# Altium integrated library ON Semi Signal Management Digital POTs.IntLib: 284 symbols (part 1 of 11)
Pins are listed as number, name and electrical type; pins without a type are passive.

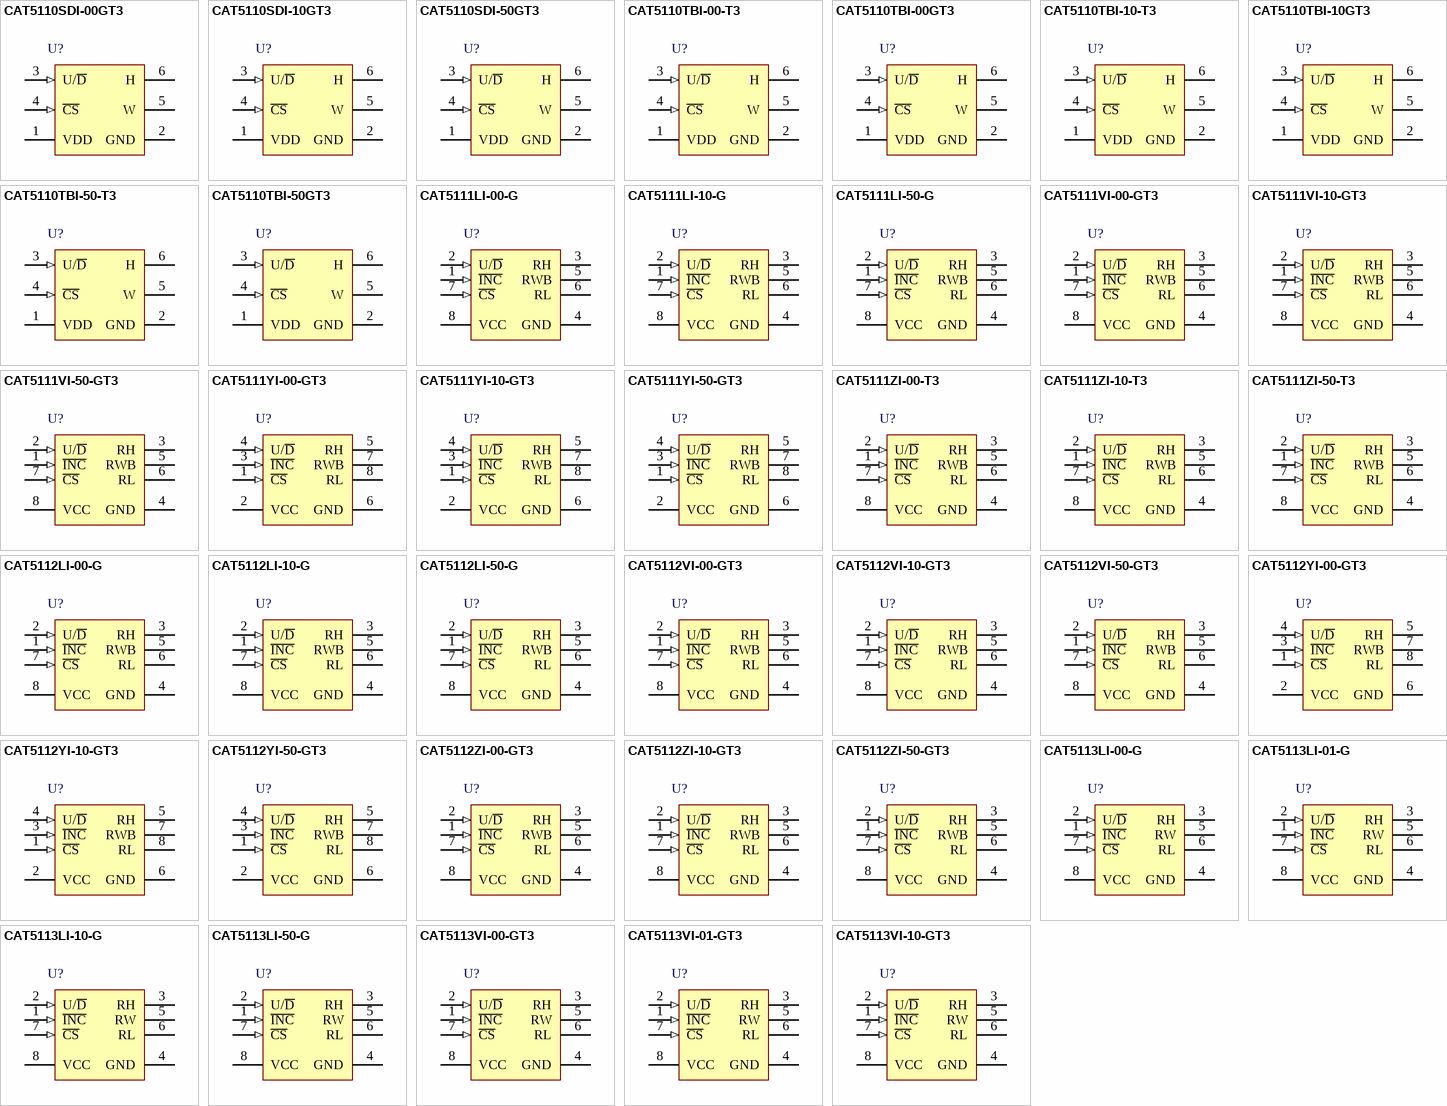
[diagram p0: symbols CAT5110SDI-00GT3 to CAT5113VI-10-GT3]

## CAT5110SDI-00GT3
designator U?
32 Tap Digital Potentiometer (POT) with 2-Wire Interface, -40 to 85 degC, 6-Pin SC70, Pb-Free, Tape and Reel; Manufacturer: On Semiconductor; PartNumber: CAT5110SDI-00GT3; # of Pots: 1; # of Taps: 32; Control Interface: Up/Down; VDD Max (V): 5.5; DatasheetVersion: Rev. 13; PackageVersion: Rev. A, 07/2010; PackageReference: SC70-6-419AD-01; PackageDescription: 6-Pin Small Outline Transistor, Body 2 x 1.25 mm, Pitch 0.65 mm; Supplier 1: Digi-Key; Supplier Part Number 1: CAT5110SDI-00GT3-ND; Supplier 2: Mouser; Supplier Part Number 2: 863-CAT5110SDI-00GT3; Packing: Tape and Reel; RoHS: TRUE; Type: Potentiometer; Mounting Technology: Surface Mount; Code_JEDEC: MO-203; ComponentLink1Description: Manufacturer URL; ComponentLink1URL: http://www.onsemi.com/; ComponentLink2Description: Datasheet; ComponentLink2URL: http://www.onsemi.com/pub_link/Collateral/CAT5110-D.PDF; ComponentLink3Description: Package Specification; ComponentLink3URL: http://www.onsemi.com/pub_link/Collateral/419AD.PDF
footprint ONSC-SC70-6-419AD-01_N (SOT23, 6-Leads, Body 2.2x1.35mm, Pitch 0.65mm, IPC Medium Density)
footprint ONSC-SC70-6-419AD-01_L (SOT23, 6-Leads, Body 2.2x1.35mm, Pitch 0.65mm, IPC High Density)
footprint ONSC-SC70-6-419AD-01_M (SOT23, 6-Leads, Body 2.2x1.35mm, Pitch 0.65mm, IPC Low Density)
pins: 1 VDD (power) "Power Supply", 2 GND (power) "Ground", 3 U/~{D} (in) "Up/D\o\w\n\ Control Input. With C\S\ low, a low-to-high transition increments or decrements the wiper position.", 4 ~{CS} (in) "Chip Select Input. A high-to-low C\S\ transition determines the mode: increment if U/D\ is high, or decrement if U/D\ is low.", 5 W "Wiper Terminal of Resistor", 6 H "High Terminal of Resistor"

## CAT5110SDI-10GT3
designator U?
32 Tap Digital Potentiometer (POT) with 2-Wire Interface, -40 to 85 degC, 6-Pin SC70, Pb-Free, Tape and Reel; Manufacturer: On Semiconductor; PartNumber: CAT5110SDI-10GT3; # of Pots: 1; # of Taps: 32; Control Interface: Up/Down; VDD Max (V): 5.5; DatasheetVersion: Rev. 13; PackageVersion: Rev. A, 07/2010; PackageReference: SC70-6-419AD-01; PackageDescription: 6-Pin Small Outline Transistor, Body 2 x 1.25 mm, Pitch 0.65 mm; Supplier 1: Mouser; Supplier Part Number 1: 863-CAT5110SDI-10GT3; Packing: Tape and Reel; RoHS: TRUE; Type: Potentiometer; Mounting Technology: Surface Mount; Code_JEDEC: MO-203; ComponentLink1Description: Manufacturer URL; ComponentLink1URL: http://www.onsemi.com/; ComponentLink2Description: Datasheet; ComponentLink2URL: http://www.onsemi.com/pub_link/Collateral/CAT5110-D.PDF; ComponentLink3Description: Package Specification; ComponentLink3URL: http://www.onsemi.com/pub_link/Collateral/419AD.PDF
footprint ONSC-SC70-6-419AD-01_N (SOT23, 6-Leads, Body 2.2x1.35mm, Pitch 0.65mm, IPC Medium Density)
footprint ONSC-SC70-6-419AD-01_L (SOT23, 6-Leads, Body 2.2x1.35mm, Pitch 0.65mm, IPC High Density)
footprint ONSC-SC70-6-419AD-01_M (SOT23, 6-Leads, Body 2.2x1.35mm, Pitch 0.65mm, IPC Low Density)
pins: 1 VDD (power) "Power Supply", 2 GND (power) "Ground", 3 U/~{D} (in) "Up/D\o\w\n\ Control Input. With C\S\ low, a low-to-high transition increments or decrements the wiper position.", 4 ~{CS} (in) "Chip Select Input. A high-to-low C\S\ transition determines the mode: increment if U/D\ is high, or decrement if U/D\ is low.", 5 W "Wiper Terminal of Resistor", 6 H "High Terminal of Resistor"

## CAT5110SDI-50GT3
designator U?
32 Tap Digital Potentiometer (POT) with 2-Wire Interface, -40 to 85 degC, 6-Pin SC70, Pb-Free, Tape and Reel; Manufacturer: On Semiconductor; PartNumber: CAT5110SDI-50GT3; # of Pots: 1; # of Taps: 32; Control Interface: Up/Down; VDD Max (V): 5.5; DatasheetVersion: Rev. 13; PackageVersion: Rev. A, 07/2010; PackageReference: SC70-6-419AD-01; PackageDescription: 6-Pin Small Outline Transistor, Body 2 x 1.25 mm, Pitch 0.65 mm; Supplier 1: Mouser; Supplier Part Number 1: 863-CAT5110SDI-50GT3; Packing: Tape and Reel; RoHS: TRUE; Type: Potentiometer; Mounting Technology: Surface Mount; Code_JEDEC: MO-203; ComponentLink1Description: Manufacturer URL; ComponentLink1URL: http://www.onsemi.com/; ComponentLink2Description: Datasheet; ComponentLink2URL: http://www.onsemi.com/pub_link/Collateral/CAT5110-D.PDF; ComponentLink3Description: Package Specification; ComponentLink3URL: http://www.onsemi.com/pub_link/Collateral/419AD.PDF
footprint ONSC-SC70-6-419AD-01_N (SOT23, 6-Leads, Body 2.2x1.35mm, Pitch 0.65mm, IPC Medium Density)
footprint ONSC-SC70-6-419AD-01_L (SOT23, 6-Leads, Body 2.2x1.35mm, Pitch 0.65mm, IPC High Density)
footprint ONSC-SC70-6-419AD-01_M (SOT23, 6-Leads, Body 2.2x1.35mm, Pitch 0.65mm, IPC Low Density)
pins: 1 VDD (power) "Power Supply", 2 GND (power) "Ground", 3 U/~{D} (in) "Up/D\o\w\n\ Control Input. With C\S\ low, a low-to-high transition increments or decrements the wiper position.", 4 ~{CS} (in) "Chip Select Input. A high-to-low C\S\ transition determines the mode: increment if U/D\ is high, or decrement if U/D\ is low.", 5 W "Wiper Terminal of Resistor", 6 H "High Terminal of Resistor"

## CAT5110TBI-00-T3
designator U?
32 Tap Digital Potentiometer (POT) with 2-Wire Interface, -40 to 85 degC, 6-Pin SOT23, Pb-Free, Tape and Reel; Manufacturer: On Semiconductor; PartNumber: CAT5110TBI-00-T3; # of Pots: 1; # of Taps: 32; Control Interface: Up/Down; VDD Max (V): 5.5; DatasheetVersion: Rev. 13; PackageVersion: Rev. B, 02/2012; PackageReference: SOT23-6-527AJ; PackageDescription: 6-Pin Small Outline Transistor, Body 2.85 x 1.55 mm, Pitch 0.95 mm; Supplier 1: Digi-Key; Supplier Part Number 1: CAT5110TBI-00-T3TR-ND; Supplier 2: Digi-Key; Supplier Part Number 2: CAT5110TBI-00-T3CT-ND; Supplier 3: Digi-Key; Supplier Part Number 3: CAT5110TBI-00-T3DKR-ND; Supplier 4: Newark; Supplier Part Number 4: 08R5274; Supplier 5: Mouser; Supplier Part Number 5: 698-CAT5110TBI-00-T3; Packing: Tape and Reel; RoHS: TRUE; Type: Potentiometer; Mounting Technology: Surface Mount; ComponentLink1Description: Manufacturer URL; ComponentLink1URL: http://www.onsemi.com/; ComponentLink2Description: Datasheet; ComponentLink2URL: http://www.onsemi.com/pub_link/Collateral/CAT5110-D.PDF; ComponentLink3Description: Package Specification; ComponentLink3URL: http://www.onsemi.com/pub_link/Collateral/527AJ.PDF
footprint ONSC-SOT23-6-527AJ_V (SOT23, 6-Leads, Body 3x1.8mm, Pitch 0.95mm)
pins: 1 VDD (power) "Power Supply", 2 GND (power) "Ground", 3 U/~{D} (in) "Up/D\o\w\n\ Control Input. With C\S\ low, a low-to-high transition increments or decrements the wiper position.", 4 ~{CS} (in) "Chip Select Input. A high-to-low C\S\ transition determines the mode: increment if U/D\ is high, or decrement if U/D\ is low.", 5 W "Wiper Terminal of Resistor", 6 H "High Terminal of Resistor"

## CAT5110TBI-00GT3
designator U?
32 Tap Digital Potentiometer (POT) with 2-Wire Interface, -40 to 85 degC, 6-Pin SOT23, Pb-Free, Tape and Reel; Manufacturer: On Semiconductor; PartNumber: CAT5110TBI-00GT3; # of Pots: 1; # of Taps: 32; Control Interface: Up/Down; VDD Max (V): 5.5; DatasheetVersion: Rev. 13; PackageVersion: Rev. B, 02/2012; PackageReference: SOT23-6-527AJ; PackageDescription: 6-Pin Small Outline Transistor, Body 2.85 x 1.55 mm, Pitch 0.95 mm; Supplier 1: Digi-Key; Supplier Part Number 1: CAT5110TBI-00GT3-ND; Supplier 2: Farnell; Supplier Part Number 2: 1783736; Supplier 3: Newark; Supplier Part Number 3: 34R3311; Supplier 4: Mouser; Supplier Part Number 4: 863-CAT5110TBI-00GT3; Packing: Tape and Reel; RoHS: TRUE; Type: Potentiometer; Mounting Technology: Surface Mount; ComponentLink1Description: Manufacturer URL; ComponentLink1URL: http://www.onsemi.com/; ComponentLink2Description: Datasheet; ComponentLink2URL: http://www.onsemi.com/pub_link/Collateral/CAT5110-D.PDF; ComponentLink3Description: Package Specification; ComponentLink3URL: http://www.onsemi.com/pub_link/Collateral/527AJ.PDF
footprint ONSC-SOT23-6-527AJ_V (SOT23, 6-Leads, Body 3x1.8mm, Pitch 0.95mm)
pins: 1 VDD (power) "Power Supply", 2 GND (power) "Ground", 3 U/~{D} (in) "Up/D\o\w\n\ Control Input. With C\S\ low, a low-to-high transition increments or decrements the wiper position.", 4 ~{CS} (in) "Chip Select Input. A high-to-low C\S\ transition determines the mode: increment if U/D\ is high, or decrement if U/D\ is low.", 5 W "Wiper Terminal of Resistor", 6 H "High Terminal of Resistor"

## CAT5110TBI-10-T3
designator U?
32 Tap Digital Potentiometer (POT) with 2-Wire Interface, -40 to 85 degC, 6-Pin SOT23, Pb-Free, Tape and Reel; Manufacturer: On Semiconductor; PartNumber: CAT5110TBI-10-T3; # of Pots: 1; # of Taps: 32; Control Interface: Up/Down; VDD Max (V): 5.5; DatasheetVersion: Rev. 13; PackageVersion: Rev. B, 02/2012; PackageReference: SOT23-6-527AJ; PackageDescription: 6-Pin Small Outline Transistor, Body 2.85 x 1.55 mm, Pitch 0.95 mm; Supplier 1: Mouser; Supplier Part Number 1: 698-CAT5110TBI-10-T3; Packing: Tape and Reel; RoHS: TRUE; Type: Potentiometer; Mounting Technology: Surface Mount; ComponentLink1Description: Manufacturer URL; ComponentLink1URL: http://www.onsemi.com/; ComponentLink2Description: Datasheet; ComponentLink2URL: http://www.onsemi.com/pub_link/Collateral/CAT5110-D.PDF; ComponentLink3Description: Package Specification; ComponentLink3URL: http://www.onsemi.com/pub_link/Collateral/527AJ.PDF
footprint ONSC-SOT23-6-527AJ_V (SOT23, 6-Leads, Body 3x1.8mm, Pitch 0.95mm)
pins: 1 VDD (power) "Power Supply", 2 GND (power) "Ground", 3 U/~{D} (in) "Up/D\o\w\n\ Control Input. With C\S\ low, a low-to-high transition increments or decrements the wiper position.", 4 ~{CS} (in) "Chip Select Input. A high-to-low C\S\ transition determines the mode: increment if U/D\ is high, or decrement if U/D\ is low.", 5 W "Wiper Terminal of Resistor", 6 H "High Terminal of Resistor"

## CAT5110TBI-10GT3
designator U?
32 Tap Digital Potentiometer (POT) with 2-Wire Interface, -40 to 85 degC, 6-Pin SOT23, Pb-Free, Tape and Reel; Manufacturer: On Semiconductor; PartNumber: CAT5110TBI-10GT3; # of Pots: 1; # of Taps: 32; Control Interface: Up/Down; VDD Max (V): 5.5; DatasheetVersion: Rev. 13; PackageVersion: Rev. B, 02/2012; PackageReference: SOT23-6-527AJ; PackageDescription: 6-Pin Small Outline Transistor, Body 2.85 x 1.55 mm, Pitch 0.95 mm; Supplier 1: Digi-Key; Supplier Part Number 1: CAT5110TBI-10GT3-ND; Supplier 2: Mouser; Supplier Part Number 2: 863-CAT5110TBI-10GT3; Packing: Tape and Reel; RoHS: TRUE; Type: Potentiometer; Mounting Technology: Surface Mount; ComponentLink1Description: Manufacturer URL; ComponentLink1URL: http://www.onsemi.com/; ComponentLink2Description: Datasheet; ComponentLink2URL: http://www.onsemi.com/pub_link/Collateral/CAT5110-D.PDF; ComponentLink3Description: Package Specification; ComponentLink3URL: http://www.onsemi.com/pub_link/Collateral/527AJ.PDF
footprint ONSC-SOT23-6-527AJ_V (SOT23, 6-Leads, Body 3x1.8mm, Pitch 0.95mm)
pins: 1 VDD (power) "Power Supply", 2 GND (power) "Ground", 3 U/~{D} (in) "Up/D\o\w\n\ Control Input. With C\S\ low, a low-to-high transition increments or decrements the wiper position.", 4 ~{CS} (in) "Chip Select Input. A high-to-low C\S\ transition determines the mode: increment if U/D\ is high, or decrement if U/D\ is low.", 5 W "Wiper Terminal of Resistor", 6 H "High Terminal of Resistor"

## CAT5110TBI-50-T3
designator U?
32 Tap Digital Potentiometer (POT) with 2-Wire Interface, -40 to 85 degC, 6-Pin SOT23, Pb-Free, Tape and Reel; Manufacturer: On Semiconductor; PartNumber: CAT5110TBI-50-T3; # of Pots: 1; # of Taps: 32; Control Interface: Up/Down; VDD Max (V): 5.5; DatasheetVersion: Rev. 13; PackageVersion: Rev. B, 02/2012; PackageReference: SOT23-6-527AJ; PackageDescription: 6-Pin Small Outline Transistor, Body 2.85 x 1.55 mm, Pitch 0.95 mm; Supplier 1: Digi-Key; Supplier Part Number 1: CAT5110TBI-50-T3TR-ND; Supplier 2: Digi-Key; Supplier Part Number 2: CAT5110TBI-50-T3CT-ND; Supplier 3: Digi-Key; Supplier Part Number 3: CAT5110TBI-50-T3DKR-ND; Supplier 4: Mouser; Supplier Part Number 4: 698-CAT5110TBI-50-T3; Packing: Tape and Reel; RoHS: TRUE; Type: Potentiometer; Mounting Technology: Surface Mount; ComponentLink1Description: Manufacturer URL; ComponentLink1URL: http://www.onsemi.com/; ComponentLink2Description: Datasheet; ComponentLink2URL: http://www.onsemi.com/pub_link/Collateral/CAT5110-D.PDF; ComponentLink3Description: Package Specification; ComponentLink3URL: http://www.onsemi.com/pub_link/Collateral/527AJ.PDF
footprint ONSC-SOT23-6-527AJ_V (SOT23, 6-Leads, Body 3x1.8mm, Pitch 0.95mm)
pins: 1 VDD (power) "Power Supply", 2 GND (power) "Ground", 3 U/~{D} (in) "Up/D\o\w\n\ Control Input. With C\S\ low, a low-to-high transition increments or decrements the wiper position.", 4 ~{CS} (in) "Chip Select Input. A high-to-low C\S\ transition determines the mode: increment if U/D\ is high, or decrement if U/D\ is low.", 5 W "Wiper Terminal of Resistor", 6 H "High Terminal of Resistor"

## CAT5110TBI-50GT3
designator U?
32 Tap Digital Potentiometer (POT) with 2-Wire Interface, -40 to 85 degC, 6-Pin SOT23, Pb-Free, Tape and Reel; Manufacturer: On Semiconductor; PartNumber: CAT5110TBI-50GT3; # of Pots: 1; # of Taps: 32; Control Interface: Up/Down; VDD Max (V): 5.5; DatasheetVersion: Rev. 13; PackageVersion: Rev. B, 02/2012; PackageReference: SOT23-6-527AJ; PackageDescription: 6-Pin Small Outline Transistor, Body 2.85 x 1.55 mm, Pitch 0.95 mm; Supplier 1: Digi-Key; Supplier Part Number 1: CAT5110TBI-50GT3-ND; Supplier 2: Farnell; Supplier Part Number 2: 1783738; Supplier 3: Newark; Supplier Part Number 3: 34R3313; Supplier 4: Mouser; Supplier Part Number 4: 863-CAT5110TBI-50GT3; Packing: Tape and Reel; RoHS: TRUE; Type: Potentiometer; Mounting Technology: Surface Mount; ComponentLink1Description: Manufacturer URL; ComponentLink1URL: http://www.onsemi.com/; ComponentLink2Description: Datasheet; ComponentLink2URL: http://www.onsemi.com/pub_link/Collateral/CAT5110-D.PDF; ComponentLink3Description: Package Specification; ComponentLink3URL: http://www.onsemi.com/pub_link/Collateral/527AJ.PDF
footprint ONSC-SOT23-6-527AJ_V (SOT23, 6-Leads, Body 3x1.8mm, Pitch 0.95mm)
pins: 1 VDD (power) "Power Supply", 2 GND (power) "Ground", 3 U/~{D} (in) "Up/D\o\w\n\ Control Input. With C\S\ low, a low-to-high transition increments or decrements the wiper position.", 4 ~{CS} (in) "Chip Select Input. A high-to-low C\S\ transition determines the mode: increment if U/D\ is high, or decrement if U/D\ is low.", 5 W "Wiper Terminal of Resistor", 6 H "High Terminal of Resistor"

## CAT5111LI-00-G
designator U?
100 Tap Digital Potentiometer (POT) with Buffered Wiper, -40 to 85 degC, 8-Pin PDIP, Pb-Free, Tube; Manufacturer: On Semiconductor; PartNumber: CAT5111LI-00-G; # of Pots: 1; # of Taps: 100; Control Interface: Up/Down; VDD Max (V): 6; DatasheetVersion: Rev. 20; PackageVersion: Rev. A, 03/2009; PackageReference: PDIP-8-646AA-01; PackageDescription: 8-Pin Plastic Dual-In Line Package, Body 9.59 x 6.605 mm, Pitch 2.54 mm; Supplier 1: Mouser; Supplier Part Number 1: 698-CAT5111LI-00-G; Packing: Tube; RoHS: TRUE; Type: Potentiometer; Mounting Technology: Through Hole; Code_JEDEC: MS-001; ComponentLink1Description: Manufacturer URL; ComponentLink1URL: http://www.onsemi.com/; ComponentLink2Description: Datasheet; ComponentLink2URL: http://www.onsemi.com/pub_link/Collateral/CAT5111-D.PDF; ComponentLink3Description: Package Specification; ComponentLink3URL: http://www.onsemi.com/pub_link/Collateral/646AA.PDF
footprint ONSC-PDIP-8-646AA-01 (DIP, 8-Leads, Body 10.15x7.1mm, Pitch 2.54mm)
pins: 1 ~{INC} (in) "Increment Control", 2 U/~{D} (in) "Up/Down Control", 3 RH "Potentiometer High Terminal", 4 GND (power) "Ground", 5 RWB "Buffered Wiper Terminal", 6 RL "Potentiometer Low Terminal", 7 ~{CS} (in) "Chip Select", 8 VCC (power) "Supply Voltage"

## CAT5111LI-10-G
designator U?
100 Tap Digital Potentiometer (POT) with Buffered Wiper, -40 to 85 degC, 8-Pin PDIP, Pb-Free, Tube; Manufacturer: On Semiconductor; PartNumber: CAT5111LI-10-G; # of Pots: 1; # of Taps: 100; Control Interface: Up/Down; VDD Max (V): 6; DatasheetVersion: Rev. 20; PackageVersion: Rev. A, 03/2009; PackageReference: PDIP-8-646AA-01; PackageDescription: 8-Pin Plastic Dual-In Line Package, Body 9.59 x 6.605 mm, Pitch 2.54 mm; Supplier 1: Mouser; Supplier Part Number 1: 698-CAT5111LI-10-G; Packing: Tube; RoHS: TRUE; Type: Potentiometer; Mounting Technology: Through Hole; Code_JEDEC: MS-001; ComponentLink1Description: Manufacturer URL; ComponentLink1URL: http://www.onsemi.com/; ComponentLink2Description: Datasheet; ComponentLink2URL: http://www.onsemi.com/pub_link/Collateral/CAT5111-D.PDF; ComponentLink3Description: Package Specification; ComponentLink3URL: http://www.onsemi.com/pub_link/Collateral/646AA.PDF
footprint ONSC-PDIP-8-646AA-01 (DIP, 8-Leads, Body 10.15x7.1mm, Pitch 2.54mm)
pins: 1 ~{INC} (in) "Increment Control", 2 U/~{D} (in) "Up/Down Control", 3 RH "Potentiometer High Terminal", 4 GND (power) "Ground", 5 RWB "Buffered Wiper Terminal", 6 RL "Potentiometer Low Terminal", 7 ~{CS} (in) "Chip Select", 8 VCC (power) "Supply Voltage"

## CAT5111LI-50-G
designator U?
100 Tap Digital Potentiometer (POT) with Buffered Wiper, -40 to 85 degC, 8-Pin PDIP, Pb-Free, Tube; Manufacturer: On Semiconductor; PartNumber: CAT5111LI-50-G; # of Pots: 1; # of Taps: 100; Control Interface: Up/Down; VDD Max (V): 6; DatasheetVersion: Rev. 20; PackageVersion: Rev. A, 03/2009; PackageReference: PDIP-8-646AA-01; PackageDescription: 8-Pin Plastic Dual-In Line Package, Body 9.59 x 6.605 mm, Pitch 2.54 mm; Supplier 1: Mouser; Supplier Part Number 1: 698-CAT5111LI-50-G; Packing: Tube; RoHS: TRUE; Type: Potentiometer; Mounting Technology: Through Hole; Code_JEDEC: MS-001; ComponentLink1Description: Manufacturer URL; ComponentLink1URL: http://www.onsemi.com/; ComponentLink2Description: Datasheet; ComponentLink2URL: http://www.onsemi.com/pub_link/Collateral/CAT5111-D.PDF; ComponentLink3Description: Package Specification; ComponentLink3URL: http://www.onsemi.com/pub_link/Collateral/646AA.PDF
footprint ONSC-PDIP-8-646AA-01 (DIP, 8-Leads, Body 10.15x7.1mm, Pitch 2.54mm)
pins: 1 ~{INC} (in) "Increment Control", 2 U/~{D} (in) "Up/Down Control", 3 RH "Potentiometer High Terminal", 4 GND (power) "Ground", 5 RWB "Buffered Wiper Terminal", 6 RL "Potentiometer Low Terminal", 7 ~{CS} (in) "Chip Select", 8 VCC (power) "Supply Voltage"

## CAT5111VI-00-GT3
designator U?
100 Tap Digital Potentiometer (POT) with Buffered Wiper, -40 to 85 degC, 8-Pin SOIC, Pb-Free, Tape and Reel; Manufacturer: On Semiconductor; PartNumber: CAT5111VI-00-GT3; # of Pots: 1; # of Taps: 100; Control Interface: Up/Down; VDD Max (V): 6; DatasheetVersion: Rev. 20; PackageVersion: Rev. O, 12/2008; PackageReference: SOIC-8-751BD-01; PackageDescription: 8-Pin Small Outline Integrated Circuit, Body 4.9 x 3.9 mm, Pitch 1.27 mm; Supplier 1: Digi-Key; Supplier Part Number 1: CAT5111VI-00-GT3-ND; Supplier 2: Mouser; Supplier Part Number 2: 698-CAT5111VI-00-GT3; Packing: Tape and Reel; RoHS: TRUE; Type: Potentiometer; Mounting Technology: Surface Mount; Code_JEDEC: MS-012; ComponentLink1Description: Manufacturer URL; ComponentLink1URL: http://www.onsemi.com/; ComponentLink2Description: Datasheet; ComponentLink2URL: http://www.onsemi.com/pub_link/Collateral/CAT5111-D.PDF; ComponentLink3Description: Package Specification; ComponentLink3URL: http://www.onsemi.com/pub_link/Collateral/751BD.PDF
footprint ONSC-SOIC-8-751BD-01_N (SOIC, 8-Leads, Body 5x4mm, Pitch 1.27mm, IPC Medium Density)
footprint ONSC-SOIC-8-751BD-01_L (SOIC, 8-Leads, Body 5x4mm, Pitch 1.27mm, IPC High Density)
footprint ONSC-SOIC-8-751BD-01_M (SOIC, 8-Leads, Body 5x4mm, Pitch 1.27mm, IPC Low Density)
pins: 1 ~{INC} (in) "Increment Control", 2 U/~{D} (in) "Up/Down Control", 3 RH "Potentiometer High Terminal", 4 GND (power) "Ground", 5 RWB "Buffered Wiper Terminal", 6 RL "Potentiometer Low Terminal", 7 ~{CS} (in) "Chip Select", 8 VCC (power) "Supply Voltage"

## CAT5111VI-10-GT3
designator U?
100 Tap Digital Potentiometer (POT) with Buffered Wiper, -40 to 85 degC, 8-Pin SOIC, Pb-Free, Tape and Reel; Manufacturer: On Semiconductor; PartNumber: CAT5111VI-10-GT3; # of Pots: 1; # of Taps: 100; Control Interface: Up/Down; VDD Max (V): 6; DatasheetVersion: Rev. 20; PackageVersion: Rev. O, 12/2008; PackageReference: SOIC-8-751BD-01; PackageDescription: 8-Pin Small Outline Integrated Circuit, Body 4.9 x 3.9 mm, Pitch 1.27 mm; Supplier 1: Digi-Key; Supplier Part Number 1: CAT5111VI-10-GT3-ND; Supplier 2: Newark; Supplier Part Number 2: 06R1026; Supplier 3: Mouser; Supplier Part Number 3: 698-CAT5111VI-10-GT3; Packing: Tape and Reel; RoHS: TRUE; Type: Potentiometer; Mounting Technology: Surface Mount; Code_JEDEC: MS-012; ComponentLink1Description: Manufacturer URL; ComponentLink1URL: http://www.onsemi.com/; ComponentLink2Description: Datasheet; ComponentLink2URL: http://www.onsemi.com/pub_link/Collateral/CAT5111-D.PDF; ComponentLink3Description: Package Specification; ComponentLink3URL: http://www.onsemi.com/pub_link/Collateral/751BD.PDF
footprint ONSC-SOIC-8-751BD-01_N (SOIC, 8-Leads, Body 5x4mm, Pitch 1.27mm, IPC Medium Density)
footprint ONSC-SOIC-8-751BD-01_L (SOIC, 8-Leads, Body 5x4mm, Pitch 1.27mm, IPC High Density)
footprint ONSC-SOIC-8-751BD-01_M (SOIC, 8-Leads, Body 5x4mm, Pitch 1.27mm, IPC Low Density)
pins: 1 ~{INC} (in) "Increment Control", 2 U/~{D} (in) "Up/Down Control", 3 RH "Potentiometer High Terminal", 4 GND (power) "Ground", 5 RWB "Buffered Wiper Terminal", 6 RL "Potentiometer Low Terminal", 7 ~{CS} (in) "Chip Select", 8 VCC (power) "Supply Voltage"

## CAT5111VI-50-GT3
designator U?
100 Tap Digital Potentiometer (POT) with Buffered Wiper, -40 to 85 degC, 8-Pin SOIC, Pb-Free, Tape and Reel; Manufacturer: On Semiconductor; PartNumber: CAT5111VI-50-GT3; # of Pots: 1; # of Taps: 100; Control Interface: Up/Down; VDD Max (V): 6; DatasheetVersion: Rev. 20; PackageVersion: Rev. O, 12/2008; PackageReference: SOIC-8-751BD-01; PackageDescription: 8-Pin Small Outline Integrated Circuit, Body 4.9 x 3.9 mm, Pitch 1.27 mm; Supplier 1: Digi-Key; Supplier Part Number 1: CAT5111VI-50-GT3-ND; Supplier 2: Mouser; Supplier Part Number 2: 698-CAT5111VI-50-GT3; Packing: Tape and Reel; RoHS: TRUE; Type: Potentiometer; Mounting Technology: Surface Mount; Code_JEDEC: MS-012; ComponentLink1Description: Manufacturer URL; ComponentLink1URL: http://www.onsemi.com/; ComponentLink2Description: Datasheet; ComponentLink2URL: http://www.onsemi.com/pub_link/Collateral/CAT5111-D.PDF; ComponentLink3Description: Package Specification; ComponentLink3URL: http://www.onsemi.com/pub_link/Collateral/751BD.PDF
footprint ONSC-SOIC-8-751BD-01_N (SOIC, 8-Leads, Body 5x4mm, Pitch 1.27mm, IPC Medium Density)
footprint ONSC-SOIC-8-751BD-01_L (SOIC, 8-Leads, Body 5x4mm, Pitch 1.27mm, IPC High Density)
footprint ONSC-SOIC-8-751BD-01_M (SOIC, 8-Leads, Body 5x4mm, Pitch 1.27mm, IPC Low Density)
pins: 1 ~{INC} (in) "Increment Control", 2 U/~{D} (in) "Up/Down Control", 3 RH "Potentiometer High Terminal", 4 GND (power) "Ground", 5 RWB "Buffered Wiper Terminal", 6 RL "Potentiometer Low Terminal", 7 ~{CS} (in) "Chip Select", 8 VCC (power) "Supply Voltage"

## CAT5111YI-00-GT3
designator U?
100 Tap Digital Potentiometer (POT) with Buffered Wiper, -40 to 85 degC, 8-Pin TSSOP, Pb-Free, Tape and Reel; Manufacturer: On Semiconductor; PartNumber: CAT5111YI-00-GT3; # of Pots: 1; # of Taps: 100; Control Interface: Up/Down; VDD Max (V): 6; DatasheetVersion: Rev. 20; PackageVersion: Rev. O, 12/2008; PackageReference: TSSOP-8-948AL-01; PackageDescription: 8-Pin Small Outline Package, Body 4.4 x 3 mm, Pitch 0.65 mm; Supplier 1: Digi-Key; Supplier Part Number 1: CAT5111YI-00-GT3-ND; Supplier 2: Mouser; Supplier Part Number 2: 863-CAT5111YI-00-GT3; Packing: Tape and Reel; RoHS: TRUE; Type: Potentiometer; Mounting Technology: Surface Mount; Code_JEDEC: MO-153; ComponentLink1Description: Manufacturer URL; ComponentLink1URL: http://www.onsemi.com/; ComponentLink2Description: Datasheet; ComponentLink2URL: http://www.onsemi.com/pub_link/Collateral/CAT5111-D.PDF; ComponentLink3Description: Package Specification; ComponentLink3URL: http://www.onsemi.com/pub/Collateral/948AL.PDF
footprint ONSC-TSSOP-8-948AL-01_N (SOP, 8-Leads, Body 4.5x3.1mm, Pitch 0.65mm, IPC Medium Density)
footprint ONSC-TSSOP-8-948AL-01_L (SOP, 8-Leads, Body 4.5x3.1mm, Pitch 0.65mm, IPC High Density)
footprint ONSC-TSSOP-8-948AL-01_M (SOP, 8-Leads, Body 4.5x3.1mm, Pitch 0.65mm, IPC Low Density)
pins: 1 ~{CS} (in) "Chip Select", 2 VCC (power) "Supply Voltage", 3 ~{INC} (in) "Increment Control", 4 U/~{D} (in) "Up/Down Control", 5 RH "Potentiometer High Terminal", 6 GND (power) "Ground", 7 RWB "Buffered Wiper Terminal", 8 RL "Potentiometer Low Terminal"

## CAT5111YI-10-GT3
designator U?
100 Tap Digital Potentiometer (POT) with Buffered Wiper, -40 to 85 degC, 8-Pin TSSOP, Pb-Free, Tape and Reel; Manufacturer: On Semiconductor; PartNumber: CAT5111YI-10-GT3; # of Pots: 1; # of Taps: 100; Control Interface: Up/Down; VDD Max (V): 6; DatasheetVersion: Rev. 20; PackageVersion: Rev. O, 12/2008; PackageReference: TSSOP-8-948AL-01; PackageDescription: 8-Pin Small Outline Package, Body 4.4 x 3 mm, Pitch 0.65 mm; Supplier 1: Digi-Key; Supplier Part Number 1: CAT5111YI-10-GT3-ND; Supplier 2: Mouser; Supplier Part Number 2: 863-CAT5111YI-10-GT3; Packing: Tape and Reel; RoHS: TRUE; Type: Potentiometer; Mounting Technology: Surface Mount; Code_JEDEC: MO-153; ComponentLink1Description: Manufacturer URL; ComponentLink1URL: http://www.onsemi.com/; ComponentLink2Description: Datasheet; ComponentLink2URL: http://www.onsemi.com/pub_link/Collateral/CAT5111-D.PDF; ComponentLink3Description: Package Specification; ComponentLink3URL: http://www.onsemi.com/pub/Collateral/948AL.PDF
footprint ONSC-TSSOP-8-948AL-01_N (SOP, 8-Leads, Body 4.5x3.1mm, Pitch 0.65mm, IPC Medium Density)
footprint ONSC-TSSOP-8-948AL-01_L (SOP, 8-Leads, Body 4.5x3.1mm, Pitch 0.65mm, IPC High Density)
footprint ONSC-TSSOP-8-948AL-01_M (SOP, 8-Leads, Body 4.5x3.1mm, Pitch 0.65mm, IPC Low Density)
pins: 1 ~{CS} (in) "Chip Select", 2 VCC (power) "Supply Voltage", 3 ~{INC} (in) "Increment Control", 4 U/~{D} (in) "Up/Down Control", 5 RH "Potentiometer High Terminal", 6 GND (power) "Ground", 7 RWB "Buffered Wiper Terminal", 8 RL "Potentiometer Low Terminal"

## CAT5111YI-50-GT3
designator U?
100 Tap Digital Potentiometer (POT) with Buffered Wiper, -40 to 85 degC, 8-Pin TSSOP, Pb-Free, Tape and Reel; Manufacturer: On Semiconductor; PartNumber: CAT5111YI-50-GT3; # of Pots: 1; # of Taps: 100; Control Interface: Up/Down; VDD Max (V): 6; DatasheetVersion: Rev. 20; PackageVersion: Rev. O, 12/2008; PackageReference: TSSOP-8-948AL-01; PackageDescription: 8-Pin Small Outline Package, Body 4.4 x 3 mm, Pitch 0.65 mm; Supplier 1: Digi-Key; Supplier Part Number 1: CAT5111YI-50-GT3-ND; Supplier 2: Mouser; Supplier Part Number 2: 863-CAT5111YI-50-GT3; Packing: Tape and Reel; RoHS: TRUE; Type: Potentiometer; Mounting Technology: Surface Mount; Code_JEDEC: MO-153; ComponentLink1Description: Manufacturer URL; ComponentLink1URL: http://www.onsemi.com/; ComponentLink2Description: Datasheet; ComponentLink2URL: http://www.onsemi.com/pub_link/Collateral/CAT5111-D.PDF; ComponentLink3Description: Package Specification; ComponentLink3URL: http://www.onsemi.com/pub/Collateral/948AL.PDF
footprint ONSC-TSSOP-8-948AL-01_N (SOP, 8-Leads, Body 4.5x3.1mm, Pitch 0.65mm, IPC Medium Density)
footprint ONSC-TSSOP-8-948AL-01_L (SOP, 8-Leads, Body 4.5x3.1mm, Pitch 0.65mm, IPC High Density)
footprint ONSC-TSSOP-8-948AL-01_M (SOP, 8-Leads, Body 4.5x3.1mm, Pitch 0.65mm, IPC Low Density)
pins: 1 ~{CS} (in) "Chip Select", 2 VCC (power) "Supply Voltage", 3 ~{INC} (in) "Increment Control", 4 U/~{D} (in) "Up/Down Control", 5 RH "Potentiometer High Terminal", 6 GND (power) "Ground", 7 RWB "Buffered Wiper Terminal", 8 RL "Potentiometer Low Terminal"

## CAT5111ZI-00-T3
designator U?
100 Tap Digital Potentiometer (POT) with Buffered Wiper, -40 to 85 degC, 8-Pin MSOP, Pb-Free, Tape and Reel; Manufacturer: On Semiconductor; PartNumber: CAT5111ZI-00-T3; # of Pots: 1; # of Taps: 100; Control Interface: Up/Down; VDD Max (V): 6; DatasheetVersion: Rev. 20; PackageVersion: Rev. O, 12/2008; PackageReference: MSOP-8-846AD-01_O; PackageDescription: 8-Pin Small Outline Package, Body 3 x 3 mm, Pitch 0.65 mm; Supplier 1: Digi-Key; Supplier Part Number 1: CAT5111ZI-00-T3-ND; Supplier 2: Mouser; Supplier Part Number 2: 698-CAT5111ZI-00-T3; Packing: Tape and Reel; RoHS: TRUE; Type: Potentiometer; Mounting Technology: Surface Mount; Code_JEDEC: MO-187; ComponentLink1Description: Manufacturer URL; ComponentLink1URL: http://www.onsemi.com/; ComponentLink2Description: Datasheet; ComponentLink2URL: http://www.onsemi.com/pub_link/Collateral/CAT5111-D.PDF; ComponentLink3Description: Package Specification; ComponentLink3URL: http://www.onsemi.com/pub_link/Collateral/846AD.PDF
footprint ONSC-MSOP-8-846AD-01_N (SOP, 8-Leads, Body 3.1x3.1mm, Pitch 0.65mm, IPC Medium Density)
footprint ONSC-MSOP-8-846AD-01_L (SOP, 8-Leads, Body 3.1x3.1mm, Pitch 0.65mm, IPC High Density)
footprint ONSC-MSOP-8-846AD-01_M (SOP, 8-Leads, Body 3.1x3.1mm, Pitch 0.65mm, IPC Low Density)
pins: 1 ~{INC} (in) "Increment Control", 2 U/~{D} (in) "Up/Down Control", 3 RH "Potentiometer High Terminal", 4 GND (power) "Ground", 5 RWB "Buffered Wiper Terminal", 6 RL "Potentiometer Low Terminal", 7 ~{CS} (in) "Chip Select", 8 VCC (power) "Supply Voltage"

## CAT5111ZI-10-T3
designator U?
100 Tap Digital Potentiometer (POT) with Buffered Wiper, -40 to 85 degC, 8-Pin MSOP, Pb-Free, Tape and Reel; Manufacturer: On Semiconductor; PartNumber: CAT5111ZI-10-T3; # of Pots: 1; # of Taps: 100; Control Interface: Up/Down; VDD Max (V): 6; DatasheetVersion: Rev. 20; PackageVersion: Rev. O, 12/2008; PackageReference: MSOP-8-846AD-01_O; PackageDescription: 8-Pin Small Outline Package, Body 3 x 3 mm, Pitch 0.65 mm; Supplier 1: Digi-Key; Supplier Part Number 1: CAT5111ZI-10-T3-ND; Supplier 2: Mouser; Supplier Part Number 2: 698-CAT5111ZI-10-T3; Packing: Tape and Reel; RoHS: TRUE; Type: Potentiometer; Mounting Technology: Surface Mount; Code_JEDEC: MO-187; ComponentLink1Description: Manufacturer URL; ComponentLink1URL: http://www.onsemi.com/; ComponentLink2Description: Datasheet; ComponentLink2URL: http://www.onsemi.com/pub_link/Collateral/CAT5111-D.PDF; ComponentLink3Description: Package Specification; ComponentLink3URL: http://www.onsemi.com/pub_link/Collateral/846AD.PDF
footprint ONSC-MSOP-8-846AD-01_N (SOP, 8-Leads, Body 3.1x3.1mm, Pitch 0.65mm, IPC Medium Density)
footprint ONSC-MSOP-8-846AD-01_L (SOP, 8-Leads, Body 3.1x3.1mm, Pitch 0.65mm, IPC High Density)
footprint ONSC-MSOP-8-846AD-01_M (SOP, 8-Leads, Body 3.1x3.1mm, Pitch 0.65mm, IPC Low Density)
pins: 1 ~{INC} (in) "Increment Control", 2 U/~{D} (in) "Up/Down Control", 3 RH "Potentiometer High Terminal", 4 GND (power) "Ground", 5 RWB "Buffered Wiper Terminal", 6 RL "Potentiometer Low Terminal", 7 ~{CS} (in) "Chip Select", 8 VCC (power) "Supply Voltage"

## CAT5111ZI-50-T3
designator U?
100 Tap Digital Potentiometer (POT) with Buffered Wiper, -40 to 85 degC, 8-Pin MSOP, Pb-Free, Tape and Reel; Manufacturer: On Semiconductor; PartNumber: CAT5111ZI-50-T3; # of Pots: 1; # of Taps: 100; Control Interface: Up/Down; VDD Max (V): 6; DatasheetVersion: Rev. 20; PackageVersion: Rev. O, 12/2008; PackageReference: MSOP-8-846AD-01_O; PackageDescription: 8-Pin Small Outline Package, Body 3 x 3 mm, Pitch 0.65 mm; Supplier 1: Digi-Key; Supplier Part Number 1: CAT5111ZI-50-T3-ND; Supplier 2: Mouser; Supplier Part Number 2: 698-CAT5111ZI-50-T3; Packing: Tape and Reel; RoHS: TRUE; Type: Potentiometer; Mounting Technology: Surface Mount; Code_JEDEC: MO-187; ComponentLink1Description: Manufacturer URL; ComponentLink1URL: http://www.onsemi.com/; ComponentLink2Description: Datasheet; ComponentLink2URL: http://www.onsemi.com/pub_link/Collateral/CAT5111-D.PDF; ComponentLink3Description: Package Specification; ComponentLink3URL: http://www.onsemi.com/pub_link/Collateral/846AD.PDF
footprint ONSC-MSOP-8-846AD-01_N (SOP, 8-Leads, Body 3.1x3.1mm, Pitch 0.65mm, IPC Medium Density)
footprint ONSC-MSOP-8-846AD-01_L (SOP, 8-Leads, Body 3.1x3.1mm, Pitch 0.65mm, IPC High Density)
footprint ONSC-MSOP-8-846AD-01_M (SOP, 8-Leads, Body 3.1x3.1mm, Pitch 0.65mm, IPC Low Density)
pins: 1 ~{INC} (in) "Increment Control", 2 U/~{D} (in) "Up/Down Control", 3 RH "Potentiometer High Terminal", 4 GND (power) "Ground", 5 RWB "Buffered Wiper Terminal", 6 RL "Potentiometer Low Terminal", 7 ~{CS} (in) "Chip Select", 8 VCC (power) "Supply Voltage"

## CAT5112LI-00-G
designator U?
32 Tap Digital Potentiometer (POT) with Buffered Wiper, -40 to 85 degC, 8-Pin PDIP, Pb-Free, Tube; Manufacturer: On Semiconductor; PartNumber: CAT5112LI-00-G; # of Pots: 1; # of Taps: 32; Control Interface: Up/Down; VDD Max (V): 6; DatasheetVersion: Rev. 16; PackageVersion: Rev. A, 03/2009; PackageReference: PDIP-8-646AA-01; PackageDescription: 8-Pin Plastic Dual-In Line Package, Body 9.59 x 6.605 mm, Pitch 2.54 mm; Supplier 1: Mouser; Supplier Part Number 1: 698-CAT5112LI-00-G; Packing: Tube; RoHS: TRUE; Type: Potentiometer; Mounting Technology: Through Hole; Code_JEDEC: MS-001; ComponentLink1Description: Manufacturer URL; ComponentLink1URL: http://www.onsemi.com/; ComponentLink2Description: Datasheet; ComponentLink2URL: http://www.onsemi.com/pub_link/Collateral/CAT5112-D.PDF; ComponentLink3Description: Package Specification; ComponentLink3URL: http://www.onsemi.com/pub_link/Collateral/646AA.PDF
footprint ONSC-PDIP-8-646AA-01 (DIP, 8-Leads, Body 10.15x7.1mm, Pitch 2.54mm)
pins: 1 ~{INC} (in) "Increment Control", 2 U/~{D} (in) "Up/Down Control", 3 RH "Potentiometer High Terminal", 4 GND (power) "Ground", 5 RWB "Buffered Wiper Terminal", 6 RL "Potentiometer Low Terminal", 7 ~{CS} (in) "Chip Select", 8 VCC (power) "Supply Voltage"

## CAT5112LI-10-G
designator U?
32 Tap Digital Potentiometer (POT) with Buffered Wiper, -40 to 85 degC, 8-Pin PDIP, Pb-Free, Tube; Manufacturer: On Semiconductor; PartNumber: CAT5112LI-10-G; # of Pots: 1; # of Taps: 32; Control Interface: Up/Down; VDD Max (V): 6; DatasheetVersion: Rev. 16; PackageVersion: Rev. A, 03/2009; PackageReference: PDIP-8-646AA-01; PackageDescription: 8-Pin Plastic Dual-In Line Package, Body 9.59 x 6.605 mm, Pitch 2.54 mm; Supplier 1: Mouser; Supplier Part Number 1: 698-CAT5112LI-10-G; Packing: Tube; RoHS: TRUE; Type: Potentiometer; Mounting Technology: Through Hole; Code_JEDEC: MS-001; ComponentLink1Description: Manufacturer URL; ComponentLink1URL: http://www.onsemi.com/; ComponentLink2Description: Datasheet; ComponentLink2URL: http://www.onsemi.com/pub_link/Collateral/CAT5112-D.PDF; ComponentLink3Description: Package Specification; ComponentLink3URL: http://www.onsemi.com/pub_link/Collateral/646AA.PDF
footprint ONSC-PDIP-8-646AA-01 (DIP, 8-Leads, Body 10.15x7.1mm, Pitch 2.54mm)
pins: 1 ~{INC} (in) "Increment Control", 2 U/~{D} (in) "Up/Down Control", 3 RH "Potentiometer High Terminal", 4 GND (power) "Ground", 5 RWB "Buffered Wiper Terminal", 6 RL "Potentiometer Low Terminal", 7 ~{CS} (in) "Chip Select", 8 VCC (power) "Supply Voltage"

## CAT5112LI-50-G
designator U?
32 Tap Digital Potentiometer (POT) with Buffered Wiper, -40 to 85 degC, 8-Pin PDIP, Pb-Free, Tube; Manufacturer: On Semiconductor; PartNumber: CAT5112LI-50-G; # of Pots: 1; # of Taps: 32; Control Interface: Up/Down; VDD Max (V): 6; DatasheetVersion: Rev. 16; PackageVersion: Rev. A, 03/2009; PackageReference: PDIP-8-646AA-01; PackageDescription: 8-Pin Plastic Dual-In Line Package, Body 9.59 x 6.605 mm, Pitch 2.54 mm; Supplier 1: Mouser; Supplier Part Number 1: 698-CAT5112LI-50-G; Packing: Tube; RoHS: TRUE; Type: Potentiometer; Mounting Technology: Through Hole; Code_JEDEC: MS-001; ComponentLink1Description: Manufacturer URL; ComponentLink1URL: http://www.onsemi.com/; ComponentLink2Description: Datasheet; ComponentLink2URL: http://www.onsemi.com/pub_link/Collateral/CAT5112-D.PDF; ComponentLink3Description: Package Specification; ComponentLink3URL: http://www.onsemi.com/pub_link/Collateral/646AA.PDF
footprint ONSC-PDIP-8-646AA-01 (DIP, 8-Leads, Body 10.15x7.1mm, Pitch 2.54mm)
pins: 1 ~{INC} (in) "Increment Control", 2 U/~{D} (in) "Up/Down Control", 3 RH "Potentiometer High Terminal", 4 GND (power) "Ground", 5 RWB "Buffered Wiper Terminal", 6 RL "Potentiometer Low Terminal", 7 ~{CS} (in) "Chip Select", 8 VCC (power) "Supply Voltage"

## CAT5112VI-00-GT3
designator U?
32 Tap Digital Potentiometer (POT) with Buffered Wiper, -40 to 85 degC, 8-Pin SOIC, Pb-Free, Tape and Reel; Manufacturer: On Semiconductor; PartNumber: CAT5112VI-00-GT3; # of Pots: 1; # of Taps: 32; Control Interface: Up/Down; VDD Max (V): 6; DatasheetVersion: Rev. 16; PackageVersion: Rev. O, 12/2008; PackageReference: SOIC-8-751BD-01; PackageDescription: 8-Pin Small Outline Integrated Circuit, Body 4.9 x 3.9 mm, Pitch 1.27 mm; Supplier 1: Digi-Key; Supplier Part Number 1: CAT5112VI-00-GT3-ND; Supplier 2: Mouser; Supplier Part Number 2: 698-CAT5112VI-00-GT3; Packing: Tape and Reel; RoHS: TRUE; Type: Potentiometer; Mounting Technology: Surface Mount; Code_JEDEC: MS-012; ComponentLink1Description: Manufacturer URL; ComponentLink1URL: http://www.onsemi.com/; ComponentLink2Description: Datasheet; ComponentLink2URL: http://www.onsemi.com/pub_link/Collateral/CAT5112-D.PDF; ComponentLink3Description: Package Specification; ComponentLink3URL: http://www.onsemi.com/pub_link/Collateral/751BD.PDF
footprint ONSC-SOIC-8-751BD-01_N (SOIC, 8-Leads, Body 5x4mm, Pitch 1.27mm, IPC Medium Density)
footprint ONSC-SOIC-8-751BD-01_L (SOIC, 8-Leads, Body 5x4mm, Pitch 1.27mm, IPC High Density)
footprint ONSC-SOIC-8-751BD-01_M (SOIC, 8-Leads, Body 5x4mm, Pitch 1.27mm, IPC Low Density)
pins: 1 ~{INC} (in) "Increment Control", 2 U/~{D} (in) "Up/Down Control", 3 RH "Potentiometer High Terminal", 4 GND (power) "Ground", 5 RWB "Buffered Wiper Terminal", 6 RL "Potentiometer Low Terminal", 7 ~{CS} (in) "Chip Select", 8 VCC (power) "Supply Voltage"

## CAT5112VI-10-GT3
designator U?
32 Tap Digital Potentiometer (POT) with Buffered Wiper, -40 to 85 degC, 8-Pin SOIC, Pb-Free, Tape and Reel; Manufacturer: On Semiconductor; PartNumber: CAT5112VI-10-GT3; # of Pots: 1; # of Taps: 32; Control Interface: Up/Down; VDD Max (V): 6; DatasheetVersion: Rev. 16; PackageVersion: Rev. O, 12/2008; PackageReference: SOIC-8-751BD-01; PackageDescription: 8-Pin Small Outline Integrated Circuit, Body 4.9 x 3.9 mm, Pitch 1.27 mm; Supplier 1: Digi-Key; Supplier Part Number 1: CAT5112VI-10-GT3-ND; Supplier 2: Mouser; Supplier Part Number 2: 698-CAT5112VI-10-GT3; Packing: Tape and Reel; RoHS: TRUE; Type: Potentiometer; Mounting Technology: Surface Mount; Code_JEDEC: MS-012; ComponentLink1Description: Manufacturer URL; ComponentLink1URL: http://www.onsemi.com/; ComponentLink2Description: Datasheet; ComponentLink2URL: http://www.onsemi.com/pub_link/Collateral/CAT5112-D.PDF; ComponentLink3Description: Package Specification; ComponentLink3URL: http://www.onsemi.com/pub_link/Collateral/751BD.PDF
footprint ONSC-SOIC-8-751BD-01_N (SOIC, 8-Leads, Body 5x4mm, Pitch 1.27mm, IPC Medium Density)
footprint ONSC-SOIC-8-751BD-01_L (SOIC, 8-Leads, Body 5x4mm, Pitch 1.27mm, IPC High Density)
footprint ONSC-SOIC-8-751BD-01_M (SOIC, 8-Leads, Body 5x4mm, Pitch 1.27mm, IPC Low Density)
pins: 1 ~{INC} (in) "Increment Control", 2 U/~{D} (in) "Up/Down Control", 3 RH "Potentiometer High Terminal", 4 GND (power) "Ground", 5 RWB "Buffered Wiper Terminal", 6 RL "Potentiometer Low Terminal", 7 ~{CS} (in) "Chip Select", 8 VCC (power) "Supply Voltage"

## CAT5112VI-50-GT3
designator U?
32 Tap Digital Potentiometer (POT) with Buffered Wiper, -40 to 85 degC, 8-Pin SOIC, Pb-Free, Tape and Reel; Manufacturer: On Semiconductor; PartNumber: CAT5112VI-50-GT3; # of Pots: 1; # of Taps: 32; Control Interface: Up/Down; VDD Max (V): 6; DatasheetVersion: Rev. 16; PackageVersion: Rev. O, 12/2008; PackageReference: SOIC-8-751BD-01; PackageDescription: 8-Pin Small Outline Integrated Circuit, Body 4.9 x 3.9 mm, Pitch 1.27 mm; Supplier 1: Digi-Key; Supplier Part Number 1: CAT5112VI-50-GT3-ND; Supplier 2: Mouser; Supplier Part Number 2: 698-CAT5112VI-50-GT3; Packing: Tape and Reel; RoHS: TRUE; Type: Potentiometer; Mounting Technology: Surface Mount; Code_JEDEC: MS-012; ComponentLink1Description: Manufacturer URL; ComponentLink1URL: http://www.onsemi.com/; ComponentLink2Description: Datasheet; ComponentLink2URL: http://www.onsemi.com/pub_link/Collateral/CAT5112-D.PDF; ComponentLink3Description: Package Specification; ComponentLink3URL: http://www.onsemi.com/pub_link/Collateral/751BD.PDF
footprint ONSC-SOIC-8-751BD-01_N (SOIC, 8-Leads, Body 5x4mm, Pitch 1.27mm, IPC Medium Density)
footprint ONSC-SOIC-8-751BD-01_L (SOIC, 8-Leads, Body 5x4mm, Pitch 1.27mm, IPC High Density)
footprint ONSC-SOIC-8-751BD-01_M (SOIC, 8-Leads, Body 5x4mm, Pitch 1.27mm, IPC Low Density)
pins: 1 ~{INC} (in) "Increment Control", 2 U/~{D} (in) "Up/Down Control", 3 RH "Potentiometer High Terminal", 4 GND (power) "Ground", 5 RWB "Buffered Wiper Terminal", 6 RL "Potentiometer Low Terminal", 7 ~{CS} (in) "Chip Select", 8 VCC (power) "Supply Voltage"

## CAT5112YI-00-GT3
designator U?
32 Tap Digital Potentiometer (POT) with Buffered Wiper, -40 to 85 degC, 8-Pin TSSOP, Pb-Free, Tape and Reel; Manufacturer: On Semiconductor; PartNumber: CAT5112YI-00-GT3; # of Pots: 1; # of Taps: 32; Control Interface: Up/Down; VDD Max (V): 6; DatasheetVersion: Rev. 16; PackageVersion: Rev. O, 12/2008; PackageReference: TSSOP-8-948AL-01; PackageDescription: 8-Pin Small Outline Package, Body 4.4 x 3 mm, Pitch 0.65 mm; Supplier 1: Digi-Key; Supplier Part Number 1: CAT5112YI-00-GT3-ND; Supplier 2: Mouser; Supplier Part Number 2: 863-CAT5112YI-00-GT3; Packing: Tape and Reel; RoHS: TRUE; Type: Potentiometer; Mounting Technology: Surface Mount; Code_JEDEC: MO-153; ComponentLink1Description: Manufacturer URL; ComponentLink1URL: http://www.onsemi.com/; ComponentLink2Description: Datasheet; ComponentLink2URL: http://www.onsemi.com/pub_link/Collateral/CAT5112-D.PDF; ComponentLink3Description: Package Specification; ComponentLink3URL: http://www.onsemi.com/pub/Collateral/948AL.PDF
footprint ONSC-TSSOP-8-948AL-01_N (SOP, 8-Leads, Body 4.5x3.1mm, Pitch 0.65mm, IPC Medium Density)
footprint ONSC-TSSOP-8-948AL-01_L (SOP, 8-Leads, Body 4.5x3.1mm, Pitch 0.65mm, IPC High Density)
footprint ONSC-TSSOP-8-948AL-01_M (SOP, 8-Leads, Body 4.5x3.1mm, Pitch 0.65mm, IPC Low Density)
pins: 1 ~{CS} (in) "Chip Select", 2 VCC (power) "Supply Voltage", 3 ~{INC} (in) "Increment Control", 4 U/~{D} (in) "Up/Down Control", 5 RH "Potentiometer High Terminal", 6 GND (power) "Ground", 7 RWB "Buffered Wiper Terminal", 8 RL "Potentiometer Low Terminal"

## CAT5112YI-10-GT3
designator U?
32 Tap Digital Potentiometer (POT) with Buffered Wiper, -40 to 85 degC, 8-Pin TSSOP, Pb-Free, Tape and Reel; Manufacturer: On Semiconductor; PartNumber: CAT5112YI-10-GT3; # of Pots: 1; # of Taps: 32; Control Interface: Up/Down; VDD Max (V): 6; DatasheetVersion: Rev. 16; PackageVersion: Rev. O, 12/2008; PackageReference: TSSOP-8-948AL-01; PackageDescription: 8-Pin Small Outline Package, Body 4.4 x 3 mm, Pitch 0.65 mm; Supplier 1: Digi-Key; Supplier Part Number 1: CAT5112YI-10-GT3-ND; Supplier 2: Mouser; Supplier Part Number 2: 863-CAT5112YI-10-GT3; Packing: Tape and Reel; RoHS: TRUE; Type: Potentiometer; Mounting Technology: Surface Mount; Code_JEDEC: MO-153; ComponentLink1Description: Manufacturer URL; ComponentLink1URL: http://www.onsemi.com/; ComponentLink2Description: Datasheet; ComponentLink2URL: http://www.onsemi.com/pub_link/Collateral/CAT5112-D.PDF; ComponentLink3Description: Package Specification; ComponentLink3URL: http://www.onsemi.com/pub/Collateral/948AL.PDF
footprint ONSC-TSSOP-8-948AL-01_N (SOP, 8-Leads, Body 4.5x3.1mm, Pitch 0.65mm, IPC Medium Density)
footprint ONSC-TSSOP-8-948AL-01_L (SOP, 8-Leads, Body 4.5x3.1mm, Pitch 0.65mm, IPC High Density)
footprint ONSC-TSSOP-8-948AL-01_M (SOP, 8-Leads, Body 4.5x3.1mm, Pitch 0.65mm, IPC Low Density)
pins: 1 ~{CS} (in) "Chip Select", 2 VCC (power) "Supply Voltage", 3 ~{INC} (in) "Increment Control", 4 U/~{D} (in) "Up/Down Control", 5 RH "Potentiometer High Terminal", 6 GND (power) "Ground", 7 RWB "Buffered Wiper Terminal", 8 RL "Potentiometer Low Terminal"

## CAT5112YI-50-GT3
designator U?
32 Tap Digital Potentiometer (POT) with Buffered Wiper, -40 to 85 degC, 8-Pin TSSOP, Pb-Free, Tape and Reel; Manufacturer: On Semiconductor; PartNumber: CAT5112YI-50-GT3; # of Pots: 1; # of Taps: 32; Control Interface: Up/Down; VDD Max (V): 6; DatasheetVersion: Rev. 16; PackageVersion: Rev. O, 12/2008; PackageReference: TSSOP-8-948AL-01; PackageDescription: 8-Pin Small Outline Package, Body 4.4 x 3 mm, Pitch 0.65 mm; Supplier 1: Digi-Key; Supplier Part Number 1: CAT5112YI-50-GT3-ND; Supplier 2: Mouser; Supplier Part Number 2: 863-CAT5112YI-50-GT3; Packing: Tape and Reel; RoHS: TRUE; Type: Potentiometer; Mounting Technology: Surface Mount; Code_JEDEC: MO-153; ComponentLink1Description: Manufacturer URL; ComponentLink1URL: http://www.onsemi.com/; ComponentLink2Description: Datasheet; ComponentLink2URL: http://www.onsemi.com/pub_link/Collateral/CAT5112-D.PDF; ComponentLink3Description: Package Specification; ComponentLink3URL: http://www.onsemi.com/pub/Collateral/948AL.PDF
footprint ONSC-TSSOP-8-948AL-01_N (SOP, 8-Leads, Body 4.5x3.1mm, Pitch 0.65mm, IPC Medium Density)
footprint ONSC-TSSOP-8-948AL-01_L (SOP, 8-Leads, Body 4.5x3.1mm, Pitch 0.65mm, IPC High Density)
footprint ONSC-TSSOP-8-948AL-01_M (SOP, 8-Leads, Body 4.5x3.1mm, Pitch 0.65mm, IPC Low Density)
pins: 1 ~{CS} (in) "Chip Select", 2 VCC (power) "Supply Voltage", 3 ~{INC} (in) "Increment Control", 4 U/~{D} (in) "Up/Down Control", 5 RH "Potentiometer High Terminal", 6 GND (power) "Ground", 7 RWB "Buffered Wiper Terminal", 8 RL "Potentiometer Low Terminal"

## CAT5112ZI-00-GT3
designator U?
32 Tap Digital Potentiometer (POT) with Buffered Wiper, -40 to 85 degC, 8-Pin MSOP, Pb-Free, Tape and Reel; Manufacturer: On Semiconductor; PartNumber: CAT5112ZI-00-GT3; # of Pots: 1; # of Taps: 32; Control Interface: Up/Down; VDD Max (V): 6; DatasheetVersion: Rev. 16; PackageVersion: Rev. O, 12/2008; PackageReference: MSOP-8-846AD-01_O; PackageDescription: 8-Pin Small Outline Package, Body 3 x 3 mm, Pitch 0.65 mm; Packing: Tape and Reel; RoHS: TRUE; Type: Potentiometer; Mounting Technology: Surface Mount; Code_JEDEC: MO-187; ComponentLink1Description: Manufacturer URL; ComponentLink1URL: http://www.onsemi.com/; ComponentLink2Description: Datasheet; ComponentLink2URL: http://www.onsemi.com/pub_link/Collateral/CAT5112-D.PDF; ComponentLink3Description: Package Specification; ComponentLink3URL: http://www.onsemi.com/pub_link/Collateral/846AD.PDF
footprint ONSC-MSOP-8-846AD-01_N (SOP, 8-Leads, Body 3.1x3.1mm, Pitch 0.65mm, IPC Medium Density)
footprint ONSC-MSOP-8-846AD-01_L (SOP, 8-Leads, Body 3.1x3.1mm, Pitch 0.65mm, IPC High Density)
footprint ONSC-MSOP-8-846AD-01_M (SOP, 8-Leads, Body 3.1x3.1mm, Pitch 0.65mm, IPC Low Density)
pins: 1 ~{INC} (in) "Increment Control", 2 U/~{D} (in) "Up/Down Control", 3 RH "Potentiometer High Terminal", 4 GND (power) "Ground", 5 RWB "Buffered Wiper Terminal", 6 RL "Potentiometer Low Terminal", 7 ~{CS} (in) "Chip Select", 8 VCC (power) "Supply Voltage"

## CAT5112ZI-10-GT3
designator U?
32 Tap Digital Potentiometer (POT) with Buffered Wiper, -40 to 85 degC, 8-Pin MSOP, Pb-Free, Tape and Reel; Manufacturer: On Semiconductor; PartNumber: CAT5112ZI-10-GT3; # of Pots: 1; # of Taps: 32; Control Interface: Up/Down; VDD Max (V): 6; DatasheetVersion: Rev. 16; PackageVersion: Rev. O, 12/2008; PackageReference: MSOP-8-846AD-01_O; PackageDescription: 8-Pin Small Outline Package, Body 3 x 3 mm, Pitch 0.65 mm; Supplier 1: Digi-Key; Supplier Part Number 1: CAT5112ZI-10-GT3-ND; Supplier 2: Mouser; Supplier Part Number 2: 863-CAT5112ZI-10-GT3; Packing: Tape and Reel; RoHS: TRUE; Type: Potentiometer; Mounting Technology: Surface Mount; Code_JEDEC: MO-187; ComponentLink1Description: Manufacturer URL; ComponentLink1URL: http://www.onsemi.com/; ComponentLink2Description: Datasheet; ComponentLink2URL: http://www.onsemi.com/pub_link/Collateral/CAT5112-D.PDF; ComponentLink3Description: Package Specification; ComponentLink3URL: http://www.onsemi.com/pub_link/Collateral/846AD.PDF
footprint ONSC-MSOP-8-846AD-01_N (SOP, 8-Leads, Body 3.1x3.1mm, Pitch 0.65mm, IPC Medium Density)
footprint ONSC-MSOP-8-846AD-01_L (SOP, 8-Leads, Body 3.1x3.1mm, Pitch 0.65mm, IPC High Density)
footprint ONSC-MSOP-8-846AD-01_M (SOP, 8-Leads, Body 3.1x3.1mm, Pitch 0.65mm, IPC Low Density)
pins: 1 ~{INC} (in) "Increment Control", 2 U/~{D} (in) "Up/Down Control", 3 RH "Potentiometer High Terminal", 4 GND (power) "Ground", 5 RWB "Buffered Wiper Terminal", 6 RL "Potentiometer Low Terminal", 7 ~{CS} (in) "Chip Select", 8 VCC (power) "Supply Voltage"